# Altium schematic symbol library SCH - PASSIVES - Varistor.Schlib: 1 symbol
Pins are listed as number, name and electrical type; pins without a type are passive.

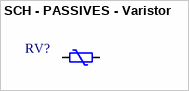
[diagram p0: symbol SCH - PASSIVES - Varistor]

## SCH - PASSIVES - Varistor
designator RV?
footprint RESC1608N (Chip Resistor, Body 1.6x0.8mm, IPC Medium Density)
pins: 1, 2